# Altium footprint library IC_SMD_QUAD.PCBLIB: 135 footprints (part 2 of 9)
Each footprint in its own frame and in the unit in brackets; x right, y up, seen from the top. Pads: shape width x height; smd on the part's side, far side on the other; paste and mask are expansions set on the pad; w line width, h text height; cw(c..) or ccw(c..) is an arc to the next point about the centre after c.
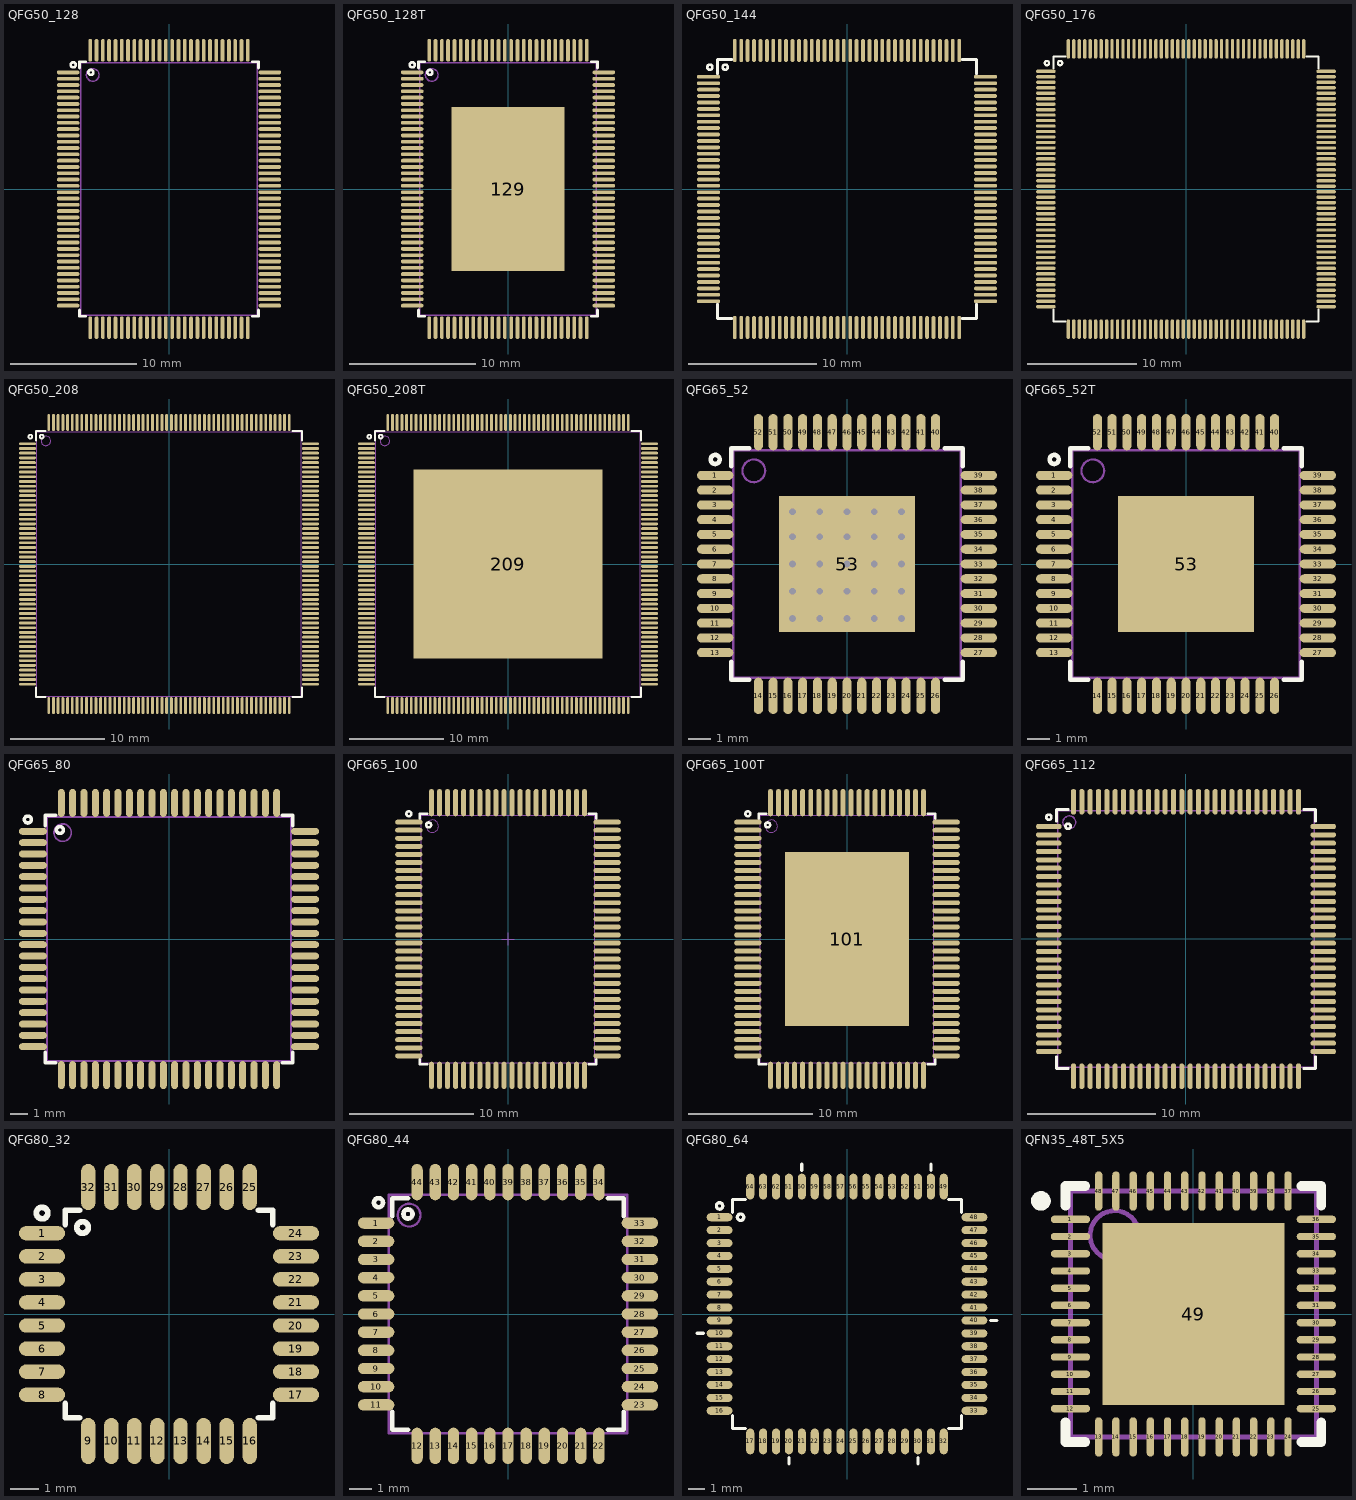
[diagram p1: the footprints below, top view; thin cyan lines are the x and y axes]

## QFG50_128 [mm] "128-Leads, Body 20X14mm, Pitch 0.50mm"
pads (128):
  oval 1.8x0.3 smd mask+0.075: 1(-8,9.25) 2(-8,8.75) 3(-8,8.25) 4(-8,7.75) 5(-8,7.25) 6(-8,6.75) 7(-8,6.25) 8(-8,5.75) 9(-8,5.25) 10(-8,4.75) 11(-8,4.25) 12(-8,3.75) 13(-8,3.25) 14(-8,2.75) 15(-8,2.25) 16(-8,1.75) 17(-8,1.25) 18(-8,0.75) 19(-8,0.25) 20(-8,-0.25) 21(-8,-0.75) 22(-8,-1.25) 23(-8,-1.75) 24(-8,-2.25) 25(-8,-2.75) 26(-8,-3.25) 27(-8,-3.75) 28(-8,-4.25) 29(-8,-4.75) 30(-8,-5.25) 31(-8,-5.75) 32(-8,-6.25) 33(-8,-6.75) 34(-8,-7.25) 35(-8,-7.75) 36(-8,-8.25) 37(-8,-8.75) 38(-8,-9.25) 65(8,-9.25) 66(8,-8.75) 67(8,-8.25) 68(8,-7.75) 69(8,-7.25) 70(8,-6.75) 71(8,-6.25) 72(8,-5.75) 73(8,-5.25) 74(8,-4.75) 75(8,-4.25) 76(8,-3.75) 77(8,-3.25) 78(8,-2.75) 79(8,-2.25) 80(8,-1.75) 81(8,-1.25) 82(8,-0.75) 83(8,-0.25) 84(8,0.25) 85(8,0.75) 86(8,1.25) 87(8,1.75) 88(8,2.25) 89(8,2.75) 90(8,3.25) 91(8,3.75) 92(8,4.25) 93(8,4.75) 94(8,5.25) 95(8,5.75) 96(8,6.25) 97(8,6.75) 98(8,7.25) 99(8,7.75) 100(8,8.25) 101(8,8.75) 102(8,9.25)
  oval 0.3x1.8 smd mask+0.075: 39(-6.25,-11) 40(-5.75,-11) 41(-5.25,-11) 42(-4.75,-11) 43(-4.25,-11) 44(-3.75,-11) 45(-3.25,-11) 46(-2.75,-11) 47(-2.25,-11) 48(-1.75,-11) 49(-1.25,-11) 50(-0.75,-11) 51(-0.25,-11) 52(0.25,-11) 53(0.75,-11) 54(1.25,-11) 55(1.75,-11) 56(2.25,-11) 57(2.75,-11) 58(3.25,-11) 59(3.75,-11) 60(4.25,-11) 61(4.75,-11) 62(5.25,-11) 63(5.75,-11) 64(6.25,-11) 103(6.25,11) 104(5.75,11) 105(5.25,11) 106(4.75,11) 107(4.25,11) 108(3.75,11) 109(3.25,11) 110(2.75,11) 111(2.25,11) 112(1.75,11) 113(1.25,11) 114(0.75,11) 115(0.25,11) 116(-0.25,11) 117(-0.75,11) 118(-1.25,11) 119(-1.75,11) 120(-2.25,11) 121(-2.75,11) 122(-3.25,11) 123(-3.75,11) 124(-4.25,11) 125(-4.75,11) 126(-5.25,11) 127(-5.75,11) 128(-6.25,11)
TopOverlay:
  circle w0.2: c-7.6,9.849 r0.2
  circle w0.2: c-6.2,9.249 r0.2
  lines w0.2: -7.1,-9.6 -7.1,-10.1 -6.6,-10.1 ; -7.1,9.6 -7.1,10.1 -6.6,10.1 ; 6.6,-10.1 7.1,-10.1 7.1,-9.6 ; 6.6,10.1 7.1,10.1 7.1,9.6
Mechanical13:
  circle w0.1: c-6.05,9.05 r0.5
  lines w0.1: -7,-10 -7,10 7,10 7,-10 -7,-10
3D body "User Library-QFP5-128.step": height 2.9, standoff 0, extent -8.6,-11.6 8.6,11.6

## QFG50_128T [mm] "128-Leads, Body 20X14mm, Pitch 0.50mm"
height 3.4
pads (129):
  oval 1.8x0.3 smd mask+0.075: 1(-7.6,9.25) 2(-7.6,8.75) 3(-7.6,8.25) 4(-7.6,7.75) 5(-7.6,7.25) 6(-7.6,6.75) 7(-7.6,6.25) 8(-7.6,5.75) 9(-7.6,5.25) 10(-7.6,4.75) 11(-7.6,4.25) 12(-7.6,3.75) 13(-7.6,3.25) 14(-7.6,2.75) 15(-7.6,2.25) 16(-7.6,1.75) 17(-7.6,1.25) 18(-7.6,0.75) 19(-7.6,0.25) 20(-7.6,-0.25) 21(-7.6,-0.75) 22(-7.6,-1.25) 23(-7.6,-1.75) 24(-7.6,-2.25) 25(-7.6,-2.75) 26(-7.6,-3.25) 27(-7.6,-3.75) 28(-7.6,-4.25) 29(-7.6,-4.75) 30(-7.6,-5.25) 31(-7.6,-5.75) 32(-7.6,-6.25) 33(-7.6,-6.75) 34(-7.6,-7.25) 35(-7.6,-7.75) 36(-7.6,-8.25) 37(-7.6,-8.75) 38(-7.6,-9.25) 65(7.6,-9.25) 66(7.6,-8.75) 67(7.6,-8.25) 68(7.6,-7.75) 69(7.6,-7.25) 70(7.6,-6.75) 71(7.6,-6.25) 72(7.6,-5.75) 73(7.6,-5.25) 74(7.6,-4.75) 75(7.6,-4.25) 76(7.6,-3.75) 77(7.6,-3.25) 78(7.6,-2.75) 79(7.6,-2.25) 80(7.6,-1.75) 81(7.6,-1.25) 82(7.6,-0.75) 83(7.6,-0.25) 84(7.6,0.25) 85(7.6,0.75) 86(7.6,1.25) 87(7.6,1.75) 88(7.6,2.25) 89(7.6,2.75) 90(7.6,3.25) 91(7.6,3.75) 92(7.6,4.25) 93(7.6,4.75) 94(7.6,5.25) 95(7.6,5.75) 96(7.6,6.25) 97(7.6,6.75) 98(7.6,7.25) 99(7.6,7.75) 100(7.6,8.25) 101(7.6,8.75) 102(7.6,9.25)
  oval 0.3x1.8 smd mask+0.075: 39(-6.25,-11) 40(-5.75,-11) 41(-5.25,-11) 42(-4.75,-11) 43(-4.25,-11) 44(-3.75,-11) 45(-3.25,-11) 46(-2.75,-11) 47(-2.25,-11) 48(-1.75,-11) 49(-1.25,-11) 50(-0.75,-11) 51(-0.25,-11) 52(0.25,-11) 53(0.75,-11) 54(1.25,-11) 55(1.75,-11) 56(2.25,-11) 57(2.75,-11) 58(3.25,-11) 59(3.75,-11) 60(4.25,-11) 61(4.75,-11) 62(5.25,-11) 63(5.75,-11) 64(6.25,-11) 103(6.25,11) 104(5.75,11) 105(5.25,11) 106(4.75,11) 107(4.25,11) 108(3.75,11) 109(3.25,11) 110(2.75,11) 111(2.25,11) 112(1.75,11) 113(1.25,11) 114(0.75,11) 115(0.25,11) 116(-0.25,11) 117(-0.75,11) 118(-1.25,11) 119(-1.75,11) 120(-2.25,11) 121(-2.75,11) 122(-3.25,11) 123(-3.75,11) 124(-4.25,11) 125(-4.75,11) 126(-5.25,11) 127(-5.75,11) 128(-6.25,11)
  rect 9x13 smd paste-10 mask+0.1: 129(0,0)
TopOverlay:
  circle w0.2: c-6.2,9.249 r0.2
  circle w0.2: c-7.6,9.849 r0.2
  lines w0.2: -7.1,-9.6 -7.1,-10.1 -6.6,-10.1 ; -7.1,9.6 -7.1,10.1 -6.6,10.1 ; 6.6,-10.1 7.1,-10.1 7.1,-9.6 ; 6.6,10.1 7.1,10.1 7.1,9.6
TopPaste:
  rectangle: -1.6,0.2 -0.2,1.6
  region: -0.2,3.4 -1.6,3.4 -1.6,2 -0.2,2
  rectangle: -4,0.2 -2,1.6
  rectangle: 0.2,2 1.6,3.4
  region: 1.6,1.6 0.2,1.6 0.2,0.2 1.6,0.2
  rectangle: -4,2 -2,3.4
  rectangle: -4,3.8 -2,5.8
  region: 4,1.6 2,1.6 2,0.2 4,0.2
  region: 4,3.4 2,3.4 2,2 4,2
  rectangle: -1.6,3.8 -0.2,5.8
  rectangle: 2,3.8 4,5.8
  rectangle: 0.2,3.8 1.6,5.8
  rectangle: 0.2,-5.8 1.6,-3.8
  rectangle: 2,-5.8 4,-3.8
  rectangle: -1.6,-5.8 -0.2,-3.8
  region: 4,-2 2,-2 2,-3.4 4,-3.4
  region: 4,-0.2 2,-0.2 2,-1.6 4,-1.6
  rectangle: -4,-5.8 -2,-3.8
  rectangle: -4,-3.4 -2,-2
  region: 1.6,-0.2 0.2,-0.2 0.2,-1.6 1.6,-1.6
  rectangle: 0.2,-3.4 1.6,-2
  rectangle: -4,-1.6 -2,-0.2
  region: -0.2,-2 -1.6,-2 -1.6,-3.4 -0.2,-3.4
  rectangle: -1.6,-1.6 -0.2,-0.2
Mechanical13:
  circle w0.1: c-6.05,9.05 r0.5
  lines w0.1: -7,-10 7,-10 7,10 -7,10 -7,-10
3D body: height 3, standoff 0.05, extent -7,-10 7,10

## QFG50_144 [mm] "LQFP144, TQFP144, A144 (Cypress), HT144/TQ144 TQG144 (Xilinx), MS-026, MO-136(JEDEC), LQFP PGE, 20X20mm, Pitch 0.50mm, HT144, HTG144"
pads (144):
  oval 1.8x0.3 smd mask+0.075: 1(-10.8,8.75) 2(-10.8,8.25) 3(-10.8,7.75) 4(-10.8,7.25) 5(-10.8,6.75) 6(-10.8,6.25) 7(-10.8,5.75) 8(-10.8,5.25) 9(-10.8,4.75) 10(-10.8,4.25) 11(-10.8,3.75) 12(-10.8,3.25) 13(-10.8,2.75) 14(-10.8,2.25) 15(-10.8,1.75) 16(-10.8,1.25) 17(-10.8,0.75) 18(-10.8,0.25) 19(-10.8,-0.25) 20(-10.8,-0.75) 21(-10.8,-1.25) 22(-10.8,-1.75) 23(-10.8,-2.25) 24(-10.8,-2.75) 25(-10.8,-3.25) 26(-10.8,-3.75) 27(-10.8,-4.25) 28(-10.8,-4.75) 29(-10.8,-5.25) 30(-10.8,-5.75) 31(-10.8,-6.25) 32(-10.8,-6.75) 33(-10.8,-7.25) 34(-10.8,-7.75) 35(-10.8,-8.25) 36(-10.8,-8.75) 73(10.8,-8.75) 74(10.8,-8.25) 75(10.8,-7.75) 76(10.8,-7.25) 77(10.8,-6.75) 78(10.8,-6.25) 79(10.8,-5.75) 80(10.8,-5.25) 81(10.8,-4.75) 82(10.8,-4.25) 83(10.8,-3.75) 84(10.8,-3.25) 85(10.8,-2.75) 86(10.8,-2.25) 87(10.8,-1.75) 88(10.8,-1.25) 89(10.8,-0.75) 90(10.8,-0.25) 91(10.8,0.25) 92(10.8,0.75) 93(10.8,1.25) 94(10.8,1.75) 95(10.8,2.25) 96(10.8,2.75) 97(10.8,3.25) 98(10.8,3.75) 99(10.8,4.25) 100(10.8,4.75) 101(10.8,5.25) 102(10.8,5.75) 103(10.8,6.25) 104(10.8,6.75) 105(10.8,7.25) 106(10.8,7.75) 107(10.8,8.25) 108(10.8,8.75)
  oval 0.3x1.8 smd mask+0.075: 37(-8.75,-10.8) 38(-8.25,-10.8) 39(-7.75,-10.8) 40(-7.25,-10.8) 41(-6.75,-10.8) 42(-6.25,-10.8) 43(-5.75,-10.8) 44(-5.25,-10.8) 45(-4.75,-10.8) 46(-4.25,-10.8) 47(-3.75,-10.8) 48(-3.25,-10.8) 49(-2.75,-10.8) 50(-2.25,-10.8) 51(-1.75,-10.8) 52(-1.25,-10.8) 53(-0.75,-10.8) 54(-0.25,-10.8) 55(0.25,-10.8) 56(0.75,-10.8) 57(1.25,-10.8) 58(1.75,-10.8) 59(2.25,-10.8) 60(2.75,-10.8) 61(3.25,-10.8) 62(3.75,-10.8) 63(4.25,-10.8) 64(4.75,-10.8) 65(5.25,-10.8) 66(5.75,-10.8) 67(6.25,-10.8) 68(6.75,-10.8) 69(7.25,-10.8) 70(7.75,-10.8) 71(8.25,-10.8) 72(8.75,-10.8) 109(8.75,10.8) 110(8.25,10.8) 111(7.75,10.8) 112(7.25,10.8) 113(6.75,10.8) 114(6.25,10.8) 115(5.75,10.8) 116(5.25,10.8) 117(4.75,10.8) 118(4.25,10.8) 119(3.75,10.8) 120(3.25,10.8) 121(2.75,10.8) 122(2.25,10.8) 123(1.75,10.8) 124(1.25,10.8) 125(0.75,10.8) 126(0.25,10.8) 127(-0.25,10.8) 128(-0.75,10.8) 129(-1.25,10.8) 130(-1.75,10.8) 131(-2.25,10.8) 132(-2.75,10.8) 133(-3.25,10.8) 134(-3.75,10.8) 135(-4.25,10.8) 136(-4.75,10.8) 137(-5.25,10.8) 138(-5.75,10.8) 139(-6.25,10.8) 140(-6.75,10.8) 141(-7.25,10.8) 142(-7.75,10.8) 143(-8.25,10.8) 144(-8.75,10.8)
TopOverlay:
  circle w0.2: c-9.5,9.5 r0.2
  circle w0.2: c-10.7,9.5 r0.2
  lines w0.2: -10.1,-9 -10.1,-10.1 -9,-10.1 ; -10.1,9 -10.1,10.1 -9,10.1 ; 9,-10.1 10.1,-10.1 10.1,-9 ; 9,10.1 10.1,10.1 10.1,9
3D body "User Library-LQFP144.STEP": height 0.89, standoff 0, extent 10,-8.86 11,8.86
3D body: height 1.2, standoff 0, extent -10,-10 10,10
3D body "User Library-LQFP144.STEP": height 0.89, standoff 0, extent -8.86,-11 8.86,-10
3D body "User Library-LQFP144.STEP": height 0.89, standoff 0, extent -8.86,10 8.86,11
3D body "User Library-LQFP144.STEP": height 0.89, standoff 0, extent -11,-8.86 -10,8.86

## QFG50_176 [mm] "PQFP176, HT176/TQ176 (Xilinx), 24X24mm, Pitch: 0.5mm, HTG176"
pads (176):
  oval 1.8x0.3 smd mask+0.075: 1(-12.8,10.75) 2(-12.8,10.25) 3(-12.8,9.75) 4(-12.8,9.25) 5(-12.8,8.75) 6(-12.8,8.25) 7(-12.8,7.75) 8(-12.8,7.25) 9(-12.8,6.75) 10(-12.8,6.25) 11(-12.8,5.75) 12(-12.8,5.25) 13(-12.8,4.75) 14(-12.8,4.25) 15(-12.8,3.75) 16(-12.8,3.25) 17(-12.8,2.75) 18(-12.8,2.25) 19(-12.8,1.75) 20(-12.8,1.25) 21(-12.8,0.75) 22(-12.8,0.25) 23(-12.8,-0.25) 24(-12.8,-0.75) 25(-12.8,-1.25) 26(-12.8,-1.75) 27(-12.8,-2.25) 28(-12.8,-2.75) 29(-12.8,-3.25) 30(-12.8,-3.75) 31(-12.8,-4.25) 32(-12.8,-4.75) 33(-12.8,-5.25) 34(-12.8,-5.75) 35(-12.8,-6.25) 36(-12.8,-6.75) 37(-12.8,-7.25) 38(-12.8,-7.75) 39(-12.8,-8.25) 40(-12.8,-8.75) 41(-12.8,-9.25) 42(-12.8,-9.75) 43(-12.8,-10.25) 44(-12.8,-10.75) 89(12.8,-10.75) 90(12.8,-10.25) 91(12.8,-9.75) 92(12.8,-9.25) 93(12.8,-8.75) 94(12.8,-8.25) 95(12.8,-7.75) 96(12.8,-7.25) 97(12.8,-6.75) 98(12.8,-6.25) 99(12.8,-5.75) 100(12.8,-5.25) 101(12.8,-4.75) 102(12.8,-4.25) 103(12.8,-3.75) 104(12.8,-3.25) 105(12.8,-2.75) 106(12.8,-2.25) 107(12.8,-1.75) 108(12.8,-1.25) 109(12.8,-0.75) 110(12.8,-0.25) 111(12.8,0.25) 112(12.8,0.75) 113(12.8,1.25) 114(12.8,1.75) 115(12.8,2.25) 116(12.8,2.75) 117(12.8,3.25) 118(12.8,3.75) 119(12.8,4.25) 120(12.8,4.75) 121(12.8,5.25) 122(12.8,5.75) 123(12.8,6.25) 124(12.8,6.75) 125(12.8,7.25) 126(12.8,7.75) 127(12.8,8.25) 128(12.8,8.75) 129(12.8,9.25) 130(12.8,9.75) 131(12.8,10.25) 132(12.8,10.75)
  oval 0.3x1.8 smd mask+0.075: 45(-10.75,-12.8) 46(-10.25,-12.8) 47(-9.75,-12.8) 48(-9.25,-12.8) 49(-8.75,-12.8) 50(-8.25,-12.8) 51(-7.75,-12.8) 52(-7.25,-12.8) 53(-6.75,-12.8) 54(-6.25,-12.8) 55(-5.75,-12.8) 56(-5.25,-12.8) 57(-4.75,-12.8) 58(-4.25,-12.8) 59(-3.75,-12.8) 60(-3.25,-12.8) 61(-2.75,-12.8) 62(-2.25,-12.8) 63(-1.75,-12.8) 64(-1.25,-12.8) 65(-0.75,-12.8) 66(-0.25,-12.8) 67(0.25,-12.8) 68(0.75,-12.8) 69(1.25,-12.8) 70(1.75,-12.8) 71(2.25,-12.8) 72(2.75,-12.8) 73(3.25,-12.8) 74(3.75,-12.8) 75(4.25,-12.8) 76(4.75,-12.8) 77(5.25,-12.8) 78(5.75,-12.8) 79(6.25,-12.8) 80(6.75,-12.8) 81(7.25,-12.8) 82(7.75,-12.8) 83(8.25,-12.8) 84(8.75,-12.8) 85(9.25,-12.8) 86(9.75,-12.8) 87(10.25,-12.8) 88(10.75,-12.8) 133(10.75,12.8) 134(10.25,12.8) 135(9.75,12.8) 136(9.25,12.8) 137(8.75,12.8) 138(8.25,12.8) 139(7.75,12.8) 140(7.25,12.8) 141(6.75,12.8) 142(6.25,12.8) 143(5.75,12.8) 144(5.25,12.8) 145(4.75,12.8) 146(4.25,12.8) 147(3.75,12.8) 148(3.25,12.8) 149(2.75,12.8) 150(2.25,12.8) 151(1.75,12.8) 152(1.25,12.8) 153(0.75,12.8) 154(0.25,12.8) 155(-0.25,12.8) 156(-0.75,12.8) 157(-1.25,12.8) 158(-1.75,12.8) 159(-2.25,12.8) 160(-2.75,12.8) 161(-3.25,12.8) 162(-3.75,12.8) 163(-4.25,12.8) 164(-4.75,12.8) 165(-5.25,12.8) 166(-5.75,12.8) 167(-6.25,12.8) 168(-6.75,12.8) 169(-7.25,12.8) 170(-7.75,12.8) 171(-8.25,12.8) 172(-8.75,12.8) 173(-9.25,12.8) 174(-9.75,12.8) 175(-10.25,12.8) 176(-10.75,12.8)
TopOverlay:
  circle w0.2: c-11.5,11.5 r0.2
  circle w0.2: c-12.7,11.5 r0.2
  lines w0.2: -12.1,-11 -12.1,-12.1 -11,-12.1 ; -12.1,11 -12.1,12.1 -11,12.1 ; 11,-12.1 12.1,-12.1 12.1,-11 ; 11,12.1 12.1,12.1 12.1,11
3D body "User Library-pqfp-176-0_5.step": height 1.6, standoff 0, extent -13.1,-13.119 13.1,13.081

## QFG50_208 [mm] "LQFP208, pqfp208 (Altera), N208 (Cypress), HQ208/MQ208/PQ208/PQG208 (Xilinx), MS-029FA1(JEDEC), SOT459-1, 28X28mm, Pitch: 0.5mm"
pads (208):
  oval 1.8x0.3 smd mask+0.075: 1(-15,12.75) 2(-15,12.25) 3(-15,11.75) 4(-15,11.25) 5(-15,10.75) 6(-15,10.25) 7(-15,9.75) 8(-15,9.25) 9(-15,8.75) 10(-15,8.25) 11(-15,7.75) 12(-15,7.25) 13(-15,6.75) 14(-15,6.25) 15(-15,5.75) 16(-15,5.25) 17(-15,4.75) 18(-15,4.25) 19(-15,3.75) 20(-15,3.25) 21(-15,2.75) 22(-15,2.25) 23(-15,1.75) 24(-15,1.25) 25(-15,0.75) 26(-15,0.25) 27(-15,-0.25) 28(-15,-0.75) 29(-15,-1.25) 30(-15,-1.75) 31(-15,-2.25) 32(-15,-2.75) 33(-15,-3.25) 34(-15,-3.75) 35(-15,-4.25) 36(-15,-4.75) 37(-15,-5.25) 38(-15,-5.75) 39(-15,-6.25) 40(-15,-6.75) 41(-15,-7.25) 42(-15,-7.75) 43(-15,-8.25) 44(-15,-8.75) 45(-15,-9.25) 46(-15,-9.75) 47(-15,-10.25) 48(-15,-10.75) 49(-15,-11.25) 50(-15,-11.75) 51(-15,-12.25) 52(-15,-12.75) 105(15,-12.75) 106(15,-12.25) 107(15,-11.75) 108(15,-11.25) 109(15,-10.75) 110(15,-10.25) 111(15,-9.75) 112(15,-9.25) 113(15,-8.75) 114(15,-8.25) 115(15,-7.75) 116(15,-7.25) 117(15,-6.75) 118(15,-6.25) 119(15,-5.75) 120(15,-5.25) 121(15,-4.75) 122(15,-4.25) 123(15,-3.75) 124(15,-3.25) 125(15,-2.75) 126(15,-2.25) 127(15,-1.75) 128(15,-1.25) 129(15,-0.75) 130(15,-0.25) 131(15,0.25) 132(15,0.75) 133(15,1.25) 134(15,1.75) 135(15,2.25) 136(15,2.75) 137(15,3.25) 138(15,3.75) 139(15,4.25) 140(15,4.75) 141(15,5.25) 142(15,5.75) 143(15,6.25) 144(15,6.75) 145(15,7.25) 146(15,7.75) 147(15,8.25) 148(15,8.75) 149(15,9.25) 150(15,9.75) 151(15,10.25) 152(15,10.75) 153(15,11.25) 154(15,11.75) 155(15,12.25) 156(15,12.75)
  oval 0.3x1.8 smd mask+0.075: 53(-12.75,-15) 54(-12.25,-15) 55(-11.75,-15) 56(-11.25,-15) 57(-10.75,-15) 58(-10.25,-15) 59(-9.75,-15) 60(-9.25,-15) 61(-8.75,-15) 62(-8.25,-15) 63(-7.75,-15) 64(-7.25,-15) 65(-6.75,-15) 66(-6.25,-15) 67(-5.75,-15) 68(-5.25,-15) 69(-4.75,-15) 70(-4.25,-15) 71(-3.75,-15) 72(-3.25,-15) 73(-2.75,-15) 74(-2.25,-15) 75(-1.75,-15) 76(-1.25,-15) 77(-0.75,-15) 78(-0.25,-15) 79(0.25,-15) 80(0.75,-15) 81(1.25,-15) 82(1.75,-15) 83(2.25,-15) 84(2.75,-15) 85(3.25,-15) 86(3.75,-15) 87(4.25,-15) 88(4.75,-15) 89(5.25,-15) 90(5.75,-15) 91(6.25,-15) 92(6.75,-15) 93(7.25,-15) 94(7.75,-15) 95(8.25,-15) 96(8.75,-15) 97(9.25,-15) 98(9.75,-15) 99(10.25,-15) 100(10.75,-15) 101(11.25,-15) 102(11.75,-15) 103(12.25,-15) 104(12.75,-15) 157(12.75,15) 158(12.25,15) 159(11.75,15) 160(11.25,15) 161(10.75,15) 162(10.25,15) 163(9.75,15) 164(9.25,15) 165(8.75,15) 166(8.25,15) 167(7.75,15) 168(7.25,15) 169(6.75,15) 170(6.25,15) 171(5.75,15) 172(5.25,15) 173(4.75,15) 174(4.25,15) 175(3.75,15) 176(3.25,15) 177(2.75,15) 178(2.25,15) 179(1.75,15) 180(1.25,15) 181(0.75,15) 182(0.25,15) 183(-0.25,15) 184(-0.75,15) 185(-1.25,15) 186(-1.75,15) 187(-2.25,15) 188(-2.75,15) 189(-3.25,15) 190(-3.75,15) 191(-4.25,15) 192(-4.75,15) 193(-5.25,15) 194(-5.75,15) 195(-6.25,15) 196(-6.75,15) 197(-7.25,15) 198(-7.75,15) 199(-8.25,15) 200(-8.75,15) 201(-9.25,15) 202(-9.75,15) 203(-10.25,15) 204(-10.75,15) 205(-11.25,15) 206(-11.75,15) 207(-12.25,15) 208(-12.75,15)
TopOverlay:
  circle w0.2: c-14.7,13.5 r0.2
  circle w0.2: c-13.5,13.5 r0.2
  lines w0.2: -14.1,-13.1 -14.1,-14.1 -13.1,-14.1 ; -14.1,13.1 -14.1,14.1 -13.1,14.1 ; 13.1,-14.1 14.1,-14.1 14.1,-13.1 ; 13.1,14.1 14.1,14.1 14.1,13.1
Mechanical13:
  circle w0.1: c-13.05,13.05 r0.5
  lines w0.1: -14,-14 14,-14 14,14 -14,14 -14,-14
3D body "SW3dPS-PQ208.STEP": height 4.15, standoff -0.08, extent -15.3,-15.3 15.3,15.3

## QFG50_208T [mm] "LQFP208p, PYP, HQ208, MS-026(JEDEC), 28X28mm, ptich: 0.5mm"
pads (209):
  oval 1.8x0.3 smd mask+0.075: 1(-15,12.75) 2(-15,12.25) 3(-15,11.75) 4(-15,11.25) 5(-15,10.75) 6(-15,10.25) 7(-15,9.75) 8(-15,9.25) 9(-15,8.75) 10(-15,8.25) 11(-15,7.75) 12(-15,7.25) 13(-15,6.75) 14(-15,6.25) 15(-15,5.75) 16(-15,5.25) 17(-15,4.75) 18(-15,4.25) 19(-15,3.75) 20(-15,3.25) 21(-15,2.75) 22(-15,2.25) 23(-15,1.75) 24(-15,1.25) 25(-15,0.75) 26(-15,0.25) 27(-15,-0.25) 28(-15,-0.75) 29(-15,-1.25) 30(-15,-1.75) 31(-15,-2.25) 32(-15,-2.75) 33(-15,-3.25) 34(-15,-3.75) 35(-15,-4.25) 36(-15,-4.75) 37(-15,-5.25) 38(-15,-5.75) 39(-15,-6.25) 40(-15,-6.75) 41(-15,-7.25) 42(-15,-7.75) 43(-15,-8.25) 44(-15,-8.75) 45(-15,-9.25) 46(-15,-9.75) 47(-15,-10.25) 48(-15,-10.75) 49(-15,-11.25) 50(-15,-11.75) 51(-15,-12.25) 52(-15,-12.75) 105(15,-12.75) 106(15,-12.25) 107(15,-11.75) 108(15,-11.25) 109(15,-10.75) 110(15,-10.25) 111(15,-9.75) 112(15,-9.25) 113(15,-8.75) 114(15,-8.25) 115(15,-7.75) 116(15,-7.25) 117(15,-6.75) 118(15,-6.25) 119(15,-5.75) 120(15,-5.25) 121(15,-4.75) 122(15,-4.25) 123(15,-3.75) 124(15,-3.25) 125(15,-2.75) 126(15,-2.25) 127(15,-1.75) 128(15,-1.25) 129(15,-0.75) 130(15,-0.25) 131(15,0.25) 132(15,0.75) 133(15,1.25) 134(15,1.75) 135(15,2.25) 136(15,2.75) 137(15,3.25) 138(15,3.75) 139(15,4.25) 140(15,4.75) 141(15,5.25) 142(15,5.75) 143(15,6.25) 144(15,6.75) 145(15,7.25) 146(15,7.75) 147(15,8.25) 148(15,8.75) 149(15,9.25) 150(15,9.75) 151(15,10.25) 152(15,10.75) 153(15,11.25) 154(15,11.75) 155(15,12.25) 156(15,12.75)
  oval 0.3x1.8 smd mask+0.075: 53(-12.75,-15) 54(-12.25,-15) 55(-11.75,-15) 56(-11.25,-15) 57(-10.75,-15) 58(-10.25,-15) 59(-9.75,-15) 60(-9.25,-15) 61(-8.75,-15) 62(-8.25,-15) 63(-7.75,-15) 64(-7.25,-15) 65(-6.75,-15) 66(-6.25,-15) 67(-5.75,-15) 68(-5.25,-15) 69(-4.75,-15) 70(-4.25,-15) 71(-3.75,-15) 72(-3.25,-15) 73(-2.75,-15) 74(-2.25,-15) 75(-1.75,-15) 76(-1.25,-15) 77(-0.75,-15) 78(-0.25,-15) 79(0.25,-15) 80(0.75,-15) 81(1.25,-15) 82(1.75,-15) 83(2.25,-15) 84(2.75,-15) 85(3.25,-15) 86(3.75,-15) 87(4.25,-15) 88(4.75,-15) 89(5.25,-15) 90(5.75,-15) 91(6.25,-15) 92(6.75,-15) 93(7.25,-15) 94(7.75,-15) 95(8.25,-15) 96(8.75,-15) 97(9.25,-15) 98(9.75,-15) 99(10.25,-15) 100(10.75,-15) 101(11.25,-15) 102(11.75,-15) 103(12.25,-15) 104(12.75,-15) 157(12.75,15) 158(12.25,15) 159(11.75,15) 160(11.25,15) 161(10.75,15) 162(10.25,15) 163(9.75,15) 164(9.25,15) 165(8.75,15) 166(8.25,15) 167(7.75,15) 168(7.25,15) 169(6.75,15) 170(6.25,15) 171(5.75,15) 172(5.25,15) 173(4.75,15) 174(4.25,15) 175(3.75,15) 176(3.25,15) 177(2.75,15) 178(2.25,15) 179(1.75,15) 180(1.25,15) 181(0.75,15) 182(0.25,15) 183(-0.25,15) 184(-0.75,15) 185(-1.25,15) 186(-1.75,15) 187(-2.25,15) 188(-2.75,15) 189(-3.25,15) 190(-3.75,15) 191(-4.25,15) 192(-4.75,15) 193(-5.25,15) 194(-5.75,15) 195(-6.25,15) 196(-6.75,15) 197(-7.25,15) 198(-7.75,15) 199(-8.25,15) 200(-8.75,15) 201(-9.25,15) 202(-9.75,15) 203(-10.25,15) 204(-10.75,15) 205(-11.25,15) 206(-11.75,15) 207(-12.25,15) 208(-12.75,15)
  rect 20x20 smd paste-10 mask+0.1: 209(0,0)
TopOverlay:
  circle w0.2: c-13.5,13.5 r0.2
  circle w0.2: c-14.7,13.5 r0.2
  lines w0.2: -14.1,-13.1 -14.1,-14.1 -13.1,-14.1 ; -14.1,13.1 -14.1,14.1 -13.1,14.1 ; 13.1,-14.1 14.1,-14.1 14.1,-13.1 ; 13.1,14.1 14.1,14.1 14.1,13.1
TopPaste:
  region: 1.6,-0.2 0.2,-0.2 0.2,-1.6 1.6,-1.6
  region: 3.4,-2 2,-2 2,-3.4 3.4,-3.4
  rectangle: 0.2,-3.4 1.6,-2
  region: 3.4,-0.2 2,-0.2 2,-1.6 3.4,-1.6
  rectangle: -3.4,-1.6 -2,-0.2
  region: -0.2,-2 -1.6,-2 -1.6,-3.4 -0.2,-3.4
  rectangle: -3.4,-3.4 -2,-2
  rectangle: -1.6,-1.6 -0.2,-0.2
  rectangle: -5.2,-3.4 -3.8,-2
  rectangle: -5.2,-1.6 -3.8,-0.2
  region: 5.2,-2 3.8,-2 3.8,-3.4 5.2,-3.4
  region: 5.2,-0.2 3.8,-0.2 3.8,-1.6 5.2,-1.6
  region: 5.2,-3.8 3.8,-3.8 3.8,-5.2 5.2,-5.2
  rectangle: -5.2,-5.2 -3.8,-3.8
  rectangle: -3.4,-5.2 -2,-3.8
  region: -0.2,-3.8 -1.6,-3.8 -1.6,-5.2 -0.2,-5.2
  rectangle: 0.2,-5.2 1.6,-3.8
  region: 3.4,-3.8 2,-3.8 2,-5.2 3.4,-5.2
  region: 3.4,-7.4 2,-7.4 2,-8.8 3.4,-8.8
  rectangle: 0.2,-8.8 1.6,-7.4
  region: -0.2,-7.4 -1.6,-7.4 -1.6,-8.8 -0.2,-8.8
  rectangle: -3.4,-8.8 -2,-7.4
  rectangle: -5.2,-8.8 -3.8,-7.4
  region: 5.2,-7.4 3.8,-7.4 3.8,-8.8 5.2,-8.8
  region: 5.2,-5.6 3.8,-5.6 3.8,-7 5.2,-7
  rectangle: -5.2,-7 -3.8,-5.6
  rectangle: -3.4,-7 -2,-5.6
  region: -0.2,-5.6 -1.6,-5.6 -1.6,-7 -0.2,-7
  rectangle: 0.2,-7 1.6,-5.6
  region: 3.4,-5.6 2,-5.6 2,-7 3.4,-7
  rectangle: -7,-7 -5.6,-5.6
  rectangle: -8.8,-7 -7.4,-5.6
  rectangle: -8.8,-8.8 -7.4,-7.4
  rectangle: -7,-8.8 -5.6,-7.4
  rectangle: -7,-5.2 -5.6,-3.8
  rectangle: -8.8,-5.2 -7.4,-3.8
  rectangle: -8.8,-1.6 -7.4,-0.2
  rectangle: -8.8,-3.4 -7.4,-2
  rectangle: -7,-3.4 -5.6,-2
  rectangle: -7,-1.6 -5.6,-0.2
  region: 7,-5.6 5.6,-5.6 5.6,-7 7,-7
  region: 8.8,-5.6 7.4,-5.6 7.4,-7 8.8,-7
  region: 8.8,-7.4 7.4,-7.4 7.4,-8.8 8.8,-8.8
  region: 7,-7.4 5.6,-7.4 5.6,-8.8 7,-8.8
  region: 7,-3.8 5.6,-3.8 5.6,-5.2 7,-5.2
  region: 8.8,-3.8 7.4,-3.8 7.4,-5.2 8.8,-5.2
  region: 8.8,-0.2 7.4,-0.2 7.4,-1.6 8.8,-1.6
  region: 8.8,-2 7.4,-2 7.4,-3.4 8.8,-3.4
  region: 7,-2 5.6,-2 5.6,-3.4 7,-3.4
  region: 7,-0.2 5.6,-0.2 5.6,-1.6 7,-1.6
  region: 7,1.6 5.6,1.6 5.6,0.2 7,0.2
  region: 7,3.4 5.6,3.4 5.6,2 7,2
  region: 8.8,3.4 7.4,3.4 7.4,2 8.8,2
  region: 8.8,1.6 7.4,1.6 7.4,0.2 8.8,0.2
  region: 8.8,5.2 7.4,5.2 7.4,3.8 8.8,3.8
  region: 7,5.2 5.6,5.2 5.6,3.8 7,3.8
  region: 7,8.8 5.6,8.8 5.6,7.4 7,7.4
  region: 8.8,8.8 7.4,8.8 7.4,7.4 8.8,7.4
  region: 8.8,7 7.4,7 7.4,5.6 8.8,5.6
  region: 7,7 5.6,7 5.6,5.6 7,5.6
  rectangle: -7,0.2 -5.6,1.6
  rectangle: -7,2 -5.6,3.4
  rectangle: -8.8,2 -7.4,3.4
  rectangle: -8.8,0.2 -7.4,1.6
  rectangle: -8.8,3.8 -7.4,5.2
  rectangle: -7,3.8 -5.6,5.2
  rectangle: -7,7.4 -5.6,8.8
  rectangle: -8.8,7.4 -7.4,8.8
  rectangle: -8.8,5.6 -7.4,7
  rectangle: -7,5.6 -5.6,7
  region: 3.4,7 2,7 2,5.6 3.4,5.6
  rectangle: 0.2,5.6 1.6,7
  region: -0.2,7 -1.6,7 -1.6,5.6 -0.2,5.6
  rectangle: -3.4,5.6 -2,7
  rectangle: -5.2,5.6 -3.8,7
  region: 5.2,7 3.8,7 3.8,5.6 5.2,5.6
  region: 5.2,8.8 3.8,8.8 3.8,7.4 5.2,7.4
  rectangle: -5.2,7.4 -3.8,8.8
  rectangle: -3.4,7.4 -2,8.8
  region: -0.2,8.8 -1.6,8.8 -1.6,7.4 -0.2,7.4
  rectangle: 0.2,7.4 1.6,8.8
  region: 3.4,8.8 2,8.8 2,7.4 3.4,7.4
  region: 3.4,5.2 2,5.2 2,3.8 3.4,3.8
  rectangle: 0.2,3.8 1.6,5.2
  region: -0.2,5.2 -1.6,5.2 -1.6,3.8 -0.2,3.8
  rectangle: -3.4,3.8 -2,5.2
  rectangle: -5.2,3.8 -3.8,5.2
  region: 5.2,5.2 3.8,5.2 3.8,3.8 5.2,3.8
  region: 5.2,1.6 3.8,1.6 3.8,0.2 5.2,0.2
  region: 5.2,3.4 3.8,3.4 3.8,2 5.2,2
  rectangle: -5.2,0.2 -3.8,1.6
  rectangle: -5.2,2 -3.8,3.4
  rectangle: -1.6,0.2 -0.2,1.6
  rectangle: -3.4,2 -2,3.4
  region: -0.2,3.4 -1.6,3.4 -1.6,2 -0.2,2
  rectangle: -3.4,0.2 -2,1.6
  region: 3.4,1.6 2,1.6 2,0.2 3.4,0.2
  rectangle: 0.2,2 1.6,3.4
  region: 3.4,3.4 2,3.4 2,2 3.4,2
  region: 1.6,1.6 0.2,1.6 0.2,0.2 1.6,0.2
TopSolder:
  drawing of 169 lines, arcs and shapes, not listed
Mechanical13:
  circle w0.1: c-13.05,13.05 r0.5
  lines w0.1: -14,-14 -14,14 14,14 14,-14 -14,-14
3D body: height 1.6, standoff 0.05, extent -14,-14 14,14

## QFG65_52 [mm] "MQFP52, S-52-2 (analog-Device), MO-112-AC-1(JEDEC), 52-Leads, Body 10x10mm, Pitch 0.65mm"
height 1.6
pads (53):
  oval 1.6x0.4 smd mask+0.075: 1(-5.8,3.9) 2(-5.8,3.25) 3(-5.8,2.6) 4(-5.8,1.95) 5(-5.8,1.3) 6(-5.8,0.65) 7(-5.8,0) 8(-5.8,-0.65) 9(-5.8,-1.3) 10(-5.8,-1.95) 11(-5.8,-2.6) 12(-5.8,-3.25) 13(-5.8,-3.9) 27(5.8,-3.9) 28(5.8,-3.25) 29(5.8,-2.6) 30(5.8,-1.95) 31(5.8,-1.3) 32(5.8,-0.65) 33(5.8,0) 34(5.8,0.65) 35(5.8,1.3) 36(5.8,1.95) 37(5.8,2.6) 38(5.8,3.25) 39(5.8,3.9)
  oval 0.4x1.6 smd mask+0.075: 14(-3.9,-5.8) 15(-3.25,-5.8) 16(-2.6,-5.8) 17(-1.95,-5.8) 18(-1.3,-5.8) 19(-0.65,-5.8) 20(0,-5.8) 21(0.65,-5.8) 22(1.3,-5.8) 23(1.95,-5.8) 24(2.6,-5.8) 25(3.25,-5.8) 26(3.9,-5.8) 40(3.9,5.8) 41(3.25,5.8) 42(2.6,5.8) 43(1.95,5.8) 44(1.3,5.8) 45(0.65,5.8) 46(0,5.8) 47(-0.65,5.8) 48(-1.3,5.8) 49(-1.95,5.8) 50(-2.6,5.8) 51(-3.25,5.8) 52(-3.9,5.8)
  rect 6x6 smd: 53(0,0)
via 2.4,-2.4 diameter 0.5 hole 0.3
via 1.2,-2.4 diameter 0.5 hole 0.3
via 0,-2.4 diameter 0.5 hole 0.3
via -1.2,-2.4 diameter 0.5 hole 0.3
via -2.4,-2.4 diameter 0.5 hole 0.3
via 2.4,-1.2 diameter 0.5 hole 0.3
via 1.2,-1.2 diameter 0.5 hole 0.3
via 0,-1.2 diameter 0.5 hole 0.3
via -1.2,-1.2 diameter 0.5 hole 0.3
via -2.4,-1.2 diameter 0.5 hole 0.3
via 2.4,0 diameter 0.5 hole 0.3
via 1.2,0 diameter 0.5 hole 0.3
via 0,0 diameter 0.5 hole 0.3
via -1.2,0 diameter 0.5 hole 0.3
via -2.4,0 diameter 0.5 hole 0.3
via 2.4,1.2 diameter 0.5 hole 0.3
via 1.2,1.2 diameter 0.5 hole 0.3
via 0,1.2 diameter 0.5 hole 0.3
via -1.2,1.2 diameter 0.5 hole 0.3
via -2.4,1.2 diameter 0.5 hole 0.3
via 2.4,2.3 diameter 0.5 hole 0.3
via 1.2,2.3 diameter 0.5 hole 0.3
via 0,2.3 diameter 0.5 hole 0.3
via -1.2,2.3 diameter 0.5 hole 0.3
via -2.4,2.3 diameter 0.5 hole 0.3
TopOverlay:
  circle w0.2: c-5.8,4.6 r0.2
  lines w0.2: -5.1,-4.3 -5.1,-5.1 -4.3,-5.1 ; -5.1,4.3 -5.1,5.1 -4.3,5.1 ; 4.3,-5.1 5.1,-5.1 5.1,-4.3 ; 4.3,5.1 5.1,5.1 5.1,4.3
Mechanical13:
  circle w0.1: c-4.1,4.1 r0.5
  lines w0.1: -5,-5 5,-5 5,5 -5,5 -5,-5
Mechanical15:
  lines w0.1: -0.5,0 0.5,0 ; 0,-0.5 0,0.5
3D body "QFP127P600-8N.step": height 1.6, standoff 0, extent -6,-6 6,6

## QFG65_52T [mm] "LQFP, TQFP, 52-Leads, Body 10x10mm, Pitch 0.65mm"
height 1.6
pads (53):
  oval 1.6x0.4 smd mask+0.075: 1(-5.8,3.9) 2(-5.8,3.25) 3(-5.8,2.6) 4(-5.8,1.95) 5(-5.8,1.3) 6(-5.8,0.65) 7(-5.8,0) 8(-5.8,-0.65) 9(-5.8,-1.3) 10(-5.8,-1.95) 11(-5.8,-2.6) 12(-5.8,-3.25) 13(-5.8,-3.9) 27(5.8,-3.9) 28(5.8,-3.25) 29(5.8,-2.6) 30(5.8,-1.95) 31(5.8,-1.3) 32(5.8,-0.65) 33(5.8,0) 34(5.8,0.65) 35(5.8,1.3) 36(5.8,1.95) 37(5.8,2.6) 38(5.8,3.25) 39(5.8,3.9)
  oval 0.4x1.6 smd mask+0.075: 14(-3.9,-5.8) 15(-3.25,-5.8) 16(-2.6,-5.8) 17(-1.95,-5.8) 18(-1.3,-5.8) 19(-0.65,-5.8) 20(0,-5.8) 21(0.65,-5.8) 22(1.3,-5.8) 23(1.95,-5.8) 24(2.6,-5.8) 25(3.25,-5.8) 26(3.9,-5.8) 40(3.9,5.8) 41(3.25,5.8) 42(2.6,5.8) 43(1.95,5.8) 44(1.3,5.8) 45(0.65,5.8) 46(0,5.8) 47(-0.65,5.8) 48(-1.3,5.8) 49(-1.95,5.8) 50(-2.6,5.8) 51(-3.25,5.8) 52(-3.9,5.8)
  rect 6x6 smd paste-3: 53(0,0)
TopOverlay:
  circle w0.2: c-5.8,4.6 r0.2
  lines w0.2: -5.1,-4.3 -5.1,-5.1 -4.3,-5.1 ; -5.1,4.3 -5.1,5.1 -4.3,5.1 ; 4.3,-5.1 5.1,-5.1 5.1,-4.3 ; 4.3,5.1 5.1,5.1 5.1,4.3
TopPaste:
  rectangle: -2.6,0.2 -1.6,1.2
  region: -0.2,2.6 -1.2,2.6 -1.2,1.6 -0.2,1.6
  rectangle: -2.6,1.6 -1.6,2.6
  rectangle: -1.2,0.2 -0.2,1.2
  region: 1.2,1.2 0.2,1.2 0.2,0.2 1.2,0.2
  region: 2.6,2.6 1.6,2.6 1.6,1.6 2.6,1.6
  rectangle: 0.2,1.6 1.2,2.6
  region: 2.6,1.2 1.6,1.2 1.6,0.2 2.6,0.2
  region: 2.6,-0.2 1.6,-0.2 1.6,-1.2 2.6,-1.2
  rectangle: 0.2,-2.6 1.2,-1.6
  region: 2.6,-1.6 1.6,-1.6 1.6,-2.6 2.6,-2.6
  region: 1.2,-0.2 0.2,-0.2 0.2,-1.2 1.2,-1.2
  rectangle: -1.2,-1.2 -0.2,-0.2
  rectangle: -2.6,-2.6 -1.6,-1.6
  region: -0.2,-1.6 -1.2,-1.6 -1.2,-2.6 -0.2,-2.6
  rectangle: -2.6,-1.2 -1.6,-0.2
Mechanical13:
  circle w0.1: c-4.1,4.1 r0.5
  lines w0.1: -5,-5 5,-5 5,5 -5,5 -5,-5
Mechanical15:
  lines w0.1: -0.5,0 0.5,0 ; 0,-0.5 0,0.5
3D body "QFP127P600-8N.step": height 1.6, standoff 0, extent -6,-6 6,6

## QFG65_80 [mm] "QFP, 80-Leads, Body 14x14mm (max), Pitch 0.65mm"
height 3
pads (80):
  oval 1.6x0.4 smd mask+0.075: 1(-7.8,6.175) 2(-7.8,5.525) 3(-7.8,4.875) 4(-7.8,4.225) 5(-7.8,3.575) 6(-7.8,2.925) 7(-7.8,2.275) 8(-7.8,1.625) 9(-7.8,0.975) 10(-7.8,0.325) 11(-7.8,-0.325) 12(-7.8,-0.975) 13(-7.8,-1.625) 14(-7.8,-2.275) 15(-7.8,-2.925) 16(-7.8,-3.575) 17(-7.8,-4.225) 18(-7.8,-4.875) 19(-7.8,-5.525) 20(-7.8,-6.175) 41(7.8,-6.175) 42(7.8,-5.525) 43(7.8,-4.875) 44(7.8,-4.225) 45(7.8,-3.575) 46(7.8,-2.925) 47(7.8,-2.275) 48(7.8,-1.625) 49(7.8,-0.975) 50(7.8,-0.325) 51(7.8,0.325) 52(7.8,0.975) 53(7.8,1.625) 54(7.8,2.275) 55(7.8,2.925) 56(7.8,3.575) 57(7.8,4.225) 58(7.8,4.875) 59(7.8,5.525) 60(7.8,6.175)
  oval 0.4x1.6 smd mask+0.075: 21(-6.175,-7.8) 22(-5.525,-7.8) 23(-4.875,-7.8) 24(-4.225,-7.8) 25(-3.575,-7.8) 26(-2.925,-7.8) 27(-2.275,-7.8) 28(-1.625,-7.8) 29(-0.975,-7.8) 30(-0.325,-7.8) 31(0.325,-7.8) 32(0.975,-7.8) 33(1.625,-7.8) 34(2.275,-7.8) 35(2.925,-7.8) 36(3.575,-7.8) 37(4.225,-7.8) 38(4.875,-7.8) 39(5.525,-7.8) 40(6.175,-7.8) 61(6.175,7.8) 62(5.525,7.8) 63(4.875,7.8) 64(4.225,7.8) 65(3.575,7.8) 66(2.925,7.8) 67(2.275,7.8) 68(1.625,7.8) 69(0.975,7.8) 70(0.325,7.8) 71(-0.325,7.8) 72(-0.975,7.8) 73(-1.625,7.8) 74(-2.275,7.8) 75(-2.925,7.8) 76(-3.575,7.8) 77(-4.225,7.8) 78(-4.875,7.8) 79(-5.525,7.8) 80(-6.175,7.8)
TopOverlay:
  circle w0.2: c-6.257,6.25 r0.2
  circle w0.2: c-8.1,6.849 r0.2
  lines w0.2: -7.1,-6.5 -7.1,-7.1 -6.5,-7.1 ; -7.1,6.5 -7.1,7.1 -6.5,7.1 ; 6.5,-7.1 7.1,-7.1 7.1,-6.5 ; 6.5,7.1 7.1,7.1 7.1,6.5
Mechanical13:
  circle w0.1: c-6.1,6.1 r0.5
  lines w0.1: -7,-7 -7,7 7,7 7,-7 -7,-7
3D body "QFG65_80-.step": height 1.2, standoff 0, extent -8,-8 8,8

## QFG65_100 [mm] "PQ100, MS-022-GC1(JEDEC), QFP100, 20X14, 0.65mm"
pads (100):
  oval 2.2x0.4 smd mask+0.075: 1(-8,9.425) 2(-8,8.775) 3(-8,8.125) 4(-8,7.475) 5(-8,6.825) 6(-8,6.175) 7(-8,5.525) 8(-8,4.875) 9(-8,4.225) 10(-8,3.575) 11(-8,2.925) 12(-8,2.275) 13(-8,1.625) 14(-8,0.975) 15(-8,0.325) 16(-8,-0.325) 17(-8,-0.975) 18(-8,-1.625) 19(-8,-2.275) 20(-8,-2.925) 21(-8,-3.575) 22(-8,-4.225) 23(-8,-4.875) 24(-8,-5.525) 25(-8,-6.175) 26(-8,-6.825) 27(-8,-7.475) 28(-8,-8.125) 29(-8,-8.775) 30(-8,-9.425) 51(8,-9.425) 52(8,-8.775) 53(8,-8.125) 54(8,-7.475) 55(8,-6.825) 56(8,-6.175) 57(8,-5.525) 58(8,-4.875) 59(8,-4.225) 60(8,-3.575) 61(8,-2.925) 62(8,-2.275) 63(8,-1.625) 64(8,-0.975) 65(8,-0.325) 66(8,0.325) 67(8,0.975) 68(8,1.625) 69(8,2.275) 70(8,2.925) 71(8,3.575) 72(8,4.225) 73(8,4.875) 74(8,5.525) 75(8,6.175) 76(8,6.825) 77(8,7.475) 78(8,8.125) 79(8,8.775) 80(8,9.425)
  oval 0.4x2.2 smd mask+0.075: 31(-6.175,-11) 32(-5.525,-11) 33(-4.875,-11) 34(-4.225,-11) 35(-3.575,-11) 36(-2.925,-11) 37(-2.275,-11) 38(-1.625,-11) 39(-0.975,-11) 40(-0.325,-11) 41(0.325,-11) 42(0.975,-11) 43(1.625,-11) 44(2.275,-11) 45(2.925,-11) 46(3.575,-11) 47(4.225,-11) 48(4.875,-11) 49(5.525,-11) 50(6.175,-11) 81(6.175,11) 82(5.525,11) 83(4.875,11) 84(4.225,11) 85(3.575,11) 86(2.925,11) 87(2.275,11) 88(1.625,11) 89(0.975,11) 90(0.325,11) 91(-0.325,11) 92(-0.975,11) 93(-1.625,11) 94(-2.275,11) 95(-2.925,11) 96(-3.575,11) 97(-4.225,11) 98(-4.875,11) 99(-5.525,11) 100(-6.175,11)
TopOverlay:
  circle w0.2: c-8,10.1 r0.2
  circle w0.2: c-6.4,9.2 r0.2
  lines w0.2: -7.1,-9.7 -7.1,-10.1 -6.5,-10.1 ; -7.1,9.7 -7.1,10.1 -6.5,10.1 ; 6.5,-10.1 7.1,-10.1 7.1,-9.7 ; 6.5,10.1 7.1,10.1 7.1,9.7
Mechanical13:
  circle w0.1: c-6.1,9.1 r0.5
  lines w0.1: -7,-10 -7,10 7,10 7,-10 -7,-10
Mechanical15:
  lines w0.1: -0.5,0 0.5,0 ; 0,-0.5 0,0.5
3D body "QFP127P600-8N.step": height 2.4, standoff 0, extent -8.5,-11.5 8.5,11.5

## QFG65_100T [mm] "HQ100, 20X14, 0.65mm"
pads (101):
  oval 2.2x0.4 smd mask+0.075: 1(-8,9.425) 2(-8,8.775) 3(-8,8.125) 4(-8,7.475) 5(-8,6.825) 6(-8,6.175) 7(-8,5.525) 8(-8,4.875) 9(-8,4.225) 10(-8,3.575) 11(-8,2.925) 12(-8,2.275) 13(-8,1.625) 14(-8,0.975) 15(-8,0.325) 16(-8,-0.325) 17(-8,-0.975) 18(-8,-1.625) 19(-8,-2.275) 20(-8,-2.925) 21(-8,-3.575) 22(-8,-4.225) 23(-8,-4.875) 24(-8,-5.525) 25(-8,-6.175) 26(-8,-6.825) 27(-8,-7.475) 28(-8,-8.125) 29(-8,-8.775) 30(-8,-9.425) 51(8,-9.425) 52(8,-8.775) 53(8,-8.125) 54(8,-7.475) 55(8,-6.825) 56(8,-6.175) 57(8,-5.525) 58(8,-4.875) 59(8,-4.225) 60(8,-3.575) 61(8,-2.925) 62(8,-2.275) 63(8,-1.625) 64(8,-0.975) 65(8,-0.325) 66(8,0.325) 67(8,0.975) 68(8,1.625) 69(8,2.275) 70(8,2.925) 71(8,3.575) 72(8,4.225) 73(8,4.875) 74(8,5.525) 75(8,6.175) 76(8,6.825) 77(8,7.475) 78(8,8.125) 79(8,8.775) 80(8,9.425)
  oval 0.4x2.2 smd mask+0.075: 31(-6.175,-11) 32(-5.525,-11) 33(-4.875,-11) 34(-4.225,-11) 35(-3.575,-11) 36(-2.925,-11) 37(-2.275,-11) 38(-1.625,-11) 39(-0.975,-11) 40(-0.325,-11) 41(0.325,-11) 42(0.975,-11) 43(1.625,-11) 44(2.275,-11) 45(2.925,-11) 46(3.575,-11) 47(4.225,-11) 48(4.875,-11) 49(5.525,-11) 50(6.175,-11) 81(6.175,11) 82(5.525,11) 83(4.875,11) 84(4.225,11) 85(3.575,11) 86(2.925,11) 87(2.275,11) 88(1.625,11) 89(0.975,11) 90(0.325,11) 91(-0.325,11) 92(-0.975,11) 93(-1.625,11) 94(-2.275,11) 95(-2.925,11) 96(-3.575,11) 97(-4.225,11) 98(-4.875,11) 99(-5.525,11) 100(-6.175,11)
  rect 10x14 smd paste-10 mask+0.075: 101(0,0)
TopOverlay:
  circle w0.2: c-6.4,9.2 r0.2
  circle w0.2: c-8,10.1 r0.2
  lines w0.2: -7.1,-9.7 -7.1,-10.1 -6.5,-10.1 ; -7.1,9.7 -7.1,10.1 -6.5,10.1 ; 6.5,-10.1 7.1,-10.1 7.1,-9.7 ; 6.5,10.1 7.1,10.1 7.1,9.7
TopPaste:
  region: 2.6,1.2 1.6,1.2 1.6,0.2 2.6,0.2
  rectangle: 0.2,1.6 1.2,2.6
  region: 2.6,2.6 1.6,2.6 1.6,1.6 2.6,1.6
  region: 1.2,1.2 0.2,1.2 0.2,0.2 1.2,0.2
  rectangle: -1.2,0.2 -0.2,1.2
  rectangle: -2.6,1.6 -1.6,2.6
  region: -0.2,2.6 -1.2,2.6 -1.2,1.6 -0.2,1.6
  rectangle: -2.6,0.2 -1.6,1.2
  rectangle: -4.6,1.6 -3,2.6
  rectangle: -4.6,0.2 -3,1.2
  region: 4.6,1.2 3,1.2 3,0.2 4.6,0.2
  region: 4.6,2.6 3,2.6 3,1.6 4.6,1.6
  region: 4.6,4 3,4 3,3 4.6,3
  rectangle: -4.6,3 -3,4
  region: -0.2,4 -1.2,4 -1.2,3 -0.2,3
  rectangle: -2.6,3 -1.6,4
  region: 2.6,4 1.6,4 1.6,3 2.6,3
  rectangle: 0.2,3 1.2,4
  region: 4.6,5.4 3,5.4 3,4.4 4.6,4.4
  rectangle: -4.6,4.4 -3,5.4
  region: -0.2,5.4 -1.2,5.4 -1.2,4.4 -0.2,4.4
  rectangle: -2.6,4.4 -1.6,5.4
  region: 2.6,5.4 1.6,5.4 1.6,4.4 2.6,4.4
  rectangle: 0.2,4.4 1.2,5.4
  region: 4.6,6.8 3,6.8 3,5.8 4.6,5.8
  rectangle: -4.6,5.8 -3,6.8
  region: -0.2,6.8 -1.2,6.8 -1.2,5.8 -0.2,5.8
  rectangle: -2.6,5.8 -1.6,6.8
  region: 2.6,6.8 1.6,6.8 1.6,5.8 2.6,5.8
  rectangle: 0.2,5.8 1.2,6.8
  rectangle: 0.2,-6.8 1.2,-5.8
  region: 2.6,-5.8 1.6,-5.8 1.6,-6.8 2.6,-6.8
  rectangle: -2.6,-6.8 -1.6,-5.8
  region: -0.2,-5.8 -1.2,-5.8 -1.2,-6.8 -0.2,-6.8
  rectangle: -4.6,-6.8 -3,-5.8
  region: 4.6,-5.8 3,-5.8 3,-6.8 4.6,-6.8
  rectangle: 0.2,-5.4 1.2,-4.4
  region: 2.6,-4.4 1.6,-4.4 1.6,-5.4 2.6,-5.4
  rectangle: -2.6,-5.4 -1.6,-4.4
  region: -0.2,-4.4 -1.2,-4.4 -1.2,-5.4 -0.2,-5.4
  rectangle: -4.6,-5.4 -3,-4.4
  region: 4.6,-4.4 3,-4.4 3,-5.4 4.6,-5.4
  rectangle: 0.2,-4 1.2,-3
  region: 2.6,-3 1.6,-3 1.6,-4 2.6,-4
  rectangle: -2.6,-4 -1.6,-3
  region: -0.2,-3 -1.2,-3 -1.2,-4 -0.2,-4
  rectangle: -4.6,-4 -3,-3
  region: 4.6,-3 3,-3 3,-4 4.6,-4
  region: 4.6,-1.6 3,-1.6 3,-2.6 4.6,-2.6
  region: 4.6,-0.2 3,-0.2 3,-1.2 4.6,-1.2
  rectangle: -4.6,-1.2 -3,-0.2
  rectangle: -4.6,-2.6 -3,-1.6
  rectangle: -2.6,-1.2 -1.6,-0.2
  region: -0.2,-1.6 -1.2,-1.6 -1.2,-2.6 -0.2,-2.6
  rectangle: -2.6,-2.6 -1.6,-1.6
  rectangle: -1.2,-1.2 -0.2,-0.2
  region: 1.2,-0.2 0.2,-0.2 0.2,-1.2 1.2,-1.2
  region: 2.6,-1.6 1.6,-1.6 1.6,-2.6 2.6,-2.6
  rectangle: 0.2,-2.6 1.2,-1.6
  region: 2.6,-0.2 1.6,-0.2 1.6,-1.2 2.6,-1.2
Mechanical13:
  circle w0.1: c-6.1,9.1 r0.5
  lines w0.1: -7,-10 7,-10 7,10 -7,10 -7,-10
Mechanical15:
  lines w0.1: -0.5,0 0.5,0 ; 0,-0.5 0,0.5
3D body "QFP127P600-8N.step": height 2.4, standoff 0, extent -8.5,-11.5 8.5,11.5

## QFG65_112 [mm] "LQFP-112, 20x20, 0.65mm Pitch"
height 1.6
pads (112):
  oval 2x0.4 smd mask+0.05: 1(-10.7,8.775) 2(-10.7,8.125) 3(-10.7,7.475) 4(-10.7,6.825) 5(-10.7,6.175) 6(-10.7,5.525) 7(-10.7,4.875) 8(-10.7,4.225) 9(-10.7,3.575) 10(-10.7,2.925) 11(-10.7,2.275) 12(-10.7,1.625) 13(-10.7,0.975) 14(-10.7,0.325) 15(-10.7,-0.325) 16(-10.7,-0.975) 17(-10.7,-1.625) 18(-10.7,-2.275) 19(-10.7,-2.925) 20(-10.7,-3.575) 21(-10.7,-4.225) 22(-10.7,-4.875) 23(-10.7,-5.525) 24(-10.7,-6.175) 25(-10.7,-6.825) 26(-10.7,-7.475) 27(-10.7,-8.125) 28(-10.7,-8.775) 57(10.7,-8.775) 58(10.7,-8.125) 59(10.7,-7.475) 60(10.7,-6.825) 61(10.7,-6.175) 62(10.7,-5.525) 63(10.7,-4.875) 64(10.7,-4.225) 65(10.7,-3.575) 66(10.7,-2.925) 67(10.7,-2.275) 68(10.7,-1.625) 69(10.7,-0.975) 70(10.7,-0.325) 71(10.7,0.325) 72(10.7,0.975) 73(10.7,1.625) 74(10.7,2.275) 75(10.7,2.925) 76(10.7,3.575) 77(10.7,4.225) 78(10.7,4.875) 79(10.7,5.525) 80(10.7,6.175) 81(10.7,6.825) 82(10.7,7.475) 83(10.7,8.125) 84(10.7,8.775)
  oval 0.4x2 smd mask+0.05: 29(-8.775,-10.7) 30(-8.125,-10.7) 31(-7.475,-10.7) 32(-6.825,-10.7) 33(-6.175,-10.7) 34(-5.525,-10.7) 35(-4.875,-10.7) 36(-4.225,-10.7) 37(-3.575,-10.7) 38(-2.925,-10.7) 39(-2.275,-10.7) 40(-1.625,-10.7) 41(-0.975,-10.7) 42(-0.325,-10.7) 43(0.325,-10.7) 44(0.975,-10.7) 45(1.625,-10.7) 46(2.275,-10.7) 47(2.925,-10.7) 48(3.575,-10.7) 49(4.225,-10.7) 50(4.875,-10.7) 51(5.525,-10.7) 52(6.175,-10.7) 53(6.825,-10.7) 54(7.475,-10.7) 55(8.125,-10.7) 56(8.775,-10.7) 85(8.775,10.7) 86(8.125,10.7) 87(7.475,10.7) 88(6.825,10.7) 89(6.175,10.7) 90(5.525,10.7) 91(4.875,10.7) 92(4.225,10.7) 93(3.575,10.7) 94(2.925,10.7) 95(2.275,10.7) 96(1.625,10.7) 97(0.975,10.7) 98(0.325,10.7) 99(-0.325,10.7) 100(-0.975,10.7) 101(-1.625,10.7) 102(-2.275,10.7) 103(-2.925,10.7) 104(-3.575,10.7) 105(-4.225,10.7) 106(-4.875,10.7) 107(-5.525,10.7) 108(-6.175,10.7) 109(-6.825,10.7) 110(-7.475,10.7) 111(-8.125,10.7) 112(-8.775,10.7)
TopOverlay:
  circle w0.2: c-10.7,9.5 r0.2
  circle w0.2: c-9.2,8.8 r0.2
  lines w0.2: -10.1,-9.2 -10.1,-10.1 -9.2,-10.1 ; -10.1,9.2 -10.1,10.1 -9.2,10.1 ; 9.2,-10.1 10.1,-10.1 10.1,-9.2 ; 9.2,10.1 10.1,10.1 10.1,9.2
Mechanical13:
  circle w0.1: c-9.1,9.1 r0.5
  lines w0.1: -10,-10 -10,10 10,10 10,-10 -10,-10
3D body "QFG65_112AA.step": height 1.6, standoff 0, extent -11,-11 11,11

## QFG80_32 [mm] "TQFP32, A32 (Cypress), GP32 (Zarlink), MS-026ABA(JEDEC), 7X7mm, 0.8mm"
pads (32):
  oval 1.6x0.5 smd: 1(-4.4,2.8) 2(-4.4,2) 3(-4.4,1.2) 4(-4.4,0.4) 5(-4.4,-0.4) 6(-4.4,-1.2) 7(-4.4,-2) 8(-4.4,-2.8) 17(4.4,-2.8) 18(4.4,-2) 19(4.4,-1.2) 20(4.4,-0.4) 21(4.4,0.4) 22(4.4,1.2) 23(4.4,2) 24(4.4,2.8)
  oval 0.5x1.6 smd: 9(-2.8,-4.4) 10(-2,-4.4) 11(-1.2,-4.4) 12(-0.4,-4.4) 13(0.4,-4.4) 14(1.2,-4.4) 15(2,-4.4) 16(2.8,-4.4) 25(2.8,4.4) 26(2,4.4) 27(1.2,4.4) 28(0.4,4.4) 29(-0.4,4.4) 30(-1.2,4.4) 31(-2,4.4) 32(-2.8,4.4)
TopOverlay:
  circle w0.2: c-4.4,3.5 r0.2
  circle w0.2: c-3,3 r0.2
  lines w0.2: -3.6,-3.1 -3.6,-3.6 -3.1,-3.6 ; -3.6,3.1 -3.6,3.6 -3.1,3.6 ; 3.1,-3.6 3.6,-3.6 3.6,-3.1 ; 3.1,3.6 3.6,3.6 3.6,3.1
3D body "User Library-QFP32.STEP": height 1.6, standoff -0.05, extent -4.5,-4.5 4.5,4.5

## QFG80_44 [mm] "TQFP44, PQFP44, A44 (Cypress), QFP44/MQFP44N (Dallas), VQ44,VQG44 (Xilinx), MS-026ACB, MS-022AB(JEDEC), 44A, 10X10, 0.8mm"
height 2.3
pads (44):
  oval 1.6x0.5 smd mask+0.075: 1(-5.8,4) 2(-5.8,3.2) 3(-5.8,2.4) 4(-5.8,1.6) 5(-5.8,0.8) 6(-5.8,0) 7(-5.8,-0.8) 8(-5.8,-1.6) 9(-5.8,-2.4) 10(-5.8,-3.2) 11(-5.8,-4) 23(5.8,-4) 24(5.8,-3.2) 25(5.8,-2.4) 26(5.8,-1.6) 27(5.8,-0.8) 28(5.8,0) 29(5.8,0.8) 30(5.8,1.6) 31(5.8,2.4) 32(5.8,3.2) 33(5.8,4)
  oval 0.5x1.6 smd mask+0.075: 12(-4,-5.8) 13(-3.2,-5.8) 14(-2.4,-5.8) 15(-1.6,-5.8) 16(-0.8,-5.8) 17(0,-5.8) 18(0.8,-5.8) 19(1.6,-5.8) 20(2.4,-5.8) 21(3.2,-5.8) 22(4,-5.8) 34(4,5.8) 35(3.2,5.8) 36(2.4,5.8) 37(1.6,5.8) 38(0.8,5.8) 39(0,5.8) 40(-0.8,5.8) 41(-1.6,5.8) 42(-2.4,5.8) 43(-3.2,5.8) 44(-4,5.8)
TopOverlay:
  circle w0.2: c-5.7,4.9 r0.2
  circle w0.2: c-4.4,4.4 r0.2
  lines w0.2: -5.1,-4.3 -5.1,-5.1 -4.4,-5.1 ; -5.1,4.3 -5.1,5.1 -4.4,5.1 ; 4.4,-5.1 5.1,-5.1 5.1,-4.3 ; 4.4,5.1 5.1,5.1 5.1,4.3
Mechanical13:
  circle w0.1: c-4.35,4.35 r0.5
  lines w0.1: -5.25,-5.25 -5.25,5.25 5.25,5.25 5.25,-5.25 -5.25,-5.25
3D body "lqfp44-sot389-1.STEP": height 1.45, standoff -0.06, extent -6.075,-6.038 6,6.038

## QFG80_64 [mm] "TQFP64, N65 (Cypress), , MS-026 AEB(JEDEC), 64A (atmel), 14X14mm, 0.8mm"
pads (64):
  oval 1.6x0.5 smd: 1(-7.9,6) 2(-7.9,5.2) 3(-7.9,4.4) 4(-7.9,3.6) 5(-7.9,2.8) 6(-7.9,2) 7(-7.9,1.2) 8(-7.9,0.4) 9(-7.9,-0.4) 10(-7.9,-1.2) 11(-7.9,-2) 12(-7.9,-2.8) 13(-7.9,-3.6) 14(-7.9,-4.4) 15(-7.9,-5.2) 16(-7.9,-6) 33(7.9,-6) 34(7.9,-5.2) 35(7.9,-4.4) 36(7.9,-3.6) 37(7.9,-2.8) 38(7.9,-2) 39(7.9,-1.2) 40(7.9,-0.4) 41(7.9,0.4) 42(7.9,1.2) 43(7.9,2) 44(7.9,2.8) 45(7.9,3.6) 46(7.9,4.4) 47(7.9,5.2) 48(7.9,6)
  oval 0.5x1.6 smd: 17(-6,-7.9) 18(-5.2,-7.9) 19(-4.4,-7.9) 20(-3.6,-7.9) 21(-2.8,-7.9) 22(-2,-7.9) 23(-1.2,-7.9) 24(-0.4,-7.9) 25(0.4,-7.9) 26(1.2,-7.9) 27(2,-7.9) 28(2.8,-7.9) 29(3.6,-7.9) 30(4.4,-7.9) 31(5.2,-7.9) 32(6,-7.9) 49(6,7.9) 50(5.2,7.9) 51(4.4,7.9) 52(3.6,7.9) 53(2.8,7.9) 54(2,7.9) 55(1.2,7.9) 56(0.4,7.9) 57(-0.4,7.9) 58(-1.2,7.9) 59(-2,7.9) 60(-2.8,7.9) 61(-3.6,7.9) 62(-4.4,7.9) 63(-5.2,7.9) 64(-6,7.9)
TopOverlay:
  circle w0.2: c-6.6,6 r0.2
  circle w0.2: c-7.9,6.7 r0.2
  lines w0.2: -9.3,-1.2 -8.9,-1.2 ; -7.1,-6.3 -7.1,-7.1 -6.3,-7.1 ; -7.1,6.3 -7.1,7.1 -6.3,7.1 ; -3.6,-9.3 -3.6,-8.9 ; -2.8,8.9 -2.8,9.3 ; 4.4,-9.3 4.4,-8.9 ; 5.2,8.9 5.2,9.3 ; 6.3,-7.1 7.1,-7.1 7.1,-6.3 ; 6.3,7.1 7.1,7.1 7.1,6.3 ; 8.9,-0.4 9.3,-0.4
3D body "User Library-atmega64 (tqfp64).step": height 1.1, standoff -0.01, extent -8,-8 8,8

## QFN35_48T_5X5 [mm] "QFN, 0.35mm pitch, 5x5mm"
height 0.9
pads (49):
  oval 0.8x0.15 smd mask+0.05: 1(-2.5,1.925) 2(-2.5,1.575) 3(-2.5,1.225) 4(-2.5,0.875) 5(-2.5,0.525) 6(-2.5,0.175) 7(-2.5,-0.175) 8(-2.5,-0.525) 9(-2.5,-0.875) 10(-2.5,-1.225) 11(-2.5,-1.575) 12(-2.5,-1.925) 25(2.5,-1.925) 26(2.5,-1.575) 27(2.5,-1.225) 28(2.5,-0.875) 29(2.5,-0.525) 30(2.5,-0.175) 31(2.5,0.175) 32(2.5,0.525) 33(2.5,0.875) 34(2.5,1.225) 35(2.5,1.575) 36(2.5,1.925)
  oval 0.15x0.8 smd mask+0.05: 13(-1.925,-2.5) 14(-1.575,-2.5) 15(-1.225,-2.5) 16(-0.875,-2.5) 17(-0.525,-2.5) 18(-0.175,-2.5) 19(0.175,-2.5) 20(0.525,-2.5) 21(0.875,-2.5) 22(1.225,-2.5) 23(1.575,-2.5) 24(1.925,-2.5) 37(1.925,2.5) 38(1.575,2.5) 39(1.225,2.5) 40(0.875,2.5) 41(0.525,2.5) 42(0.175,2.5) 43(-0.175,2.5) 44(-0.525,2.5) 45(-0.875,2.5) 46(-1.225,2.5) 47(-1.575,2.5) 48(-1.925,2.5)
  rect 3.7x3.7 smd paste-10 mask+0.05: 49(0,0)
TopOverlay:
  circle w0.2: c-3.1,2.3 r0.1
  lines w0.2: -2.6,-2.2 -2.6,-2.6 -2.2,-2.6 ; -2.6,2.2 -2.6,2.6 -2.2,2.6 ; 2.2,-2.6 2.6,-2.6 2.6,-2.2 ; 2.2,2.6 2.6,2.6 2.6,2.2
TopPaste:
  rectangle: -1.6,-1.6 -0.2,-0.2
  region: 1.6,-0.2 0.2,-0.2 0.2,-1.6 1.6,-1.6
  region: 1.6,1.6 0.2,1.6 0.2,0.2 1.6,0.2
  rectangle: -1.6,0.2 -0.2,1.6
Mechanical13:
  circle w0.1: c-1.6,1.6 r0.5
  lines w0.1: -2.5,-2.5 2.5,-2.5 2.5,2.5 -2.5,2.5 -2.5,-2.5
3D body "QFN35_48T.step": height 0.9, standoff 0, extent -2.501,-2.501 2.501,2.501